# EAGLE library part RELAY:DPDT(OMRON,G6K-2F-Y,SMT) (library QuantumOptics)
Relay, DPDT, OMRON G6K-2F-Y, SMT. . . .http://www.components.omron.com/components/web/pdflib.nsf/0/B9B1B32CFA49FCB185257201007DD585/$file/G6K_0607.pdf
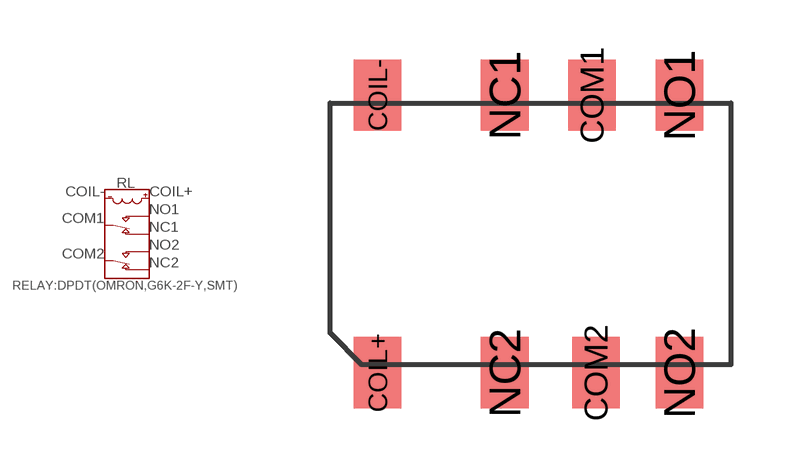
[diagram p113: symbol with the pads of RELAY:DPDT(OMRON,G6K-2F-Y,SMT); footprint RELAY:DPDT(OMRON,G6K-2F-Y,SMT)]

Designator prefix RL

## RELAY:DPDT(OMRON,G6K-2F-Y,SMT)-G6K-2F-Y  [RELAY:DPDT(OMRON,G6K-2F-Y,SMT)]
COIL+  COIL+
COIL-  COIL-
COM1  COM1
COM2  COM2
NC1  NC1
NC2  NC2
NO1  NO1
NO2  NO2

## Footprint RELAY:DPDT(OMRON,G6K-2F-Y,SMT) (pad centres in mm)
Relay, DPDT, OMRON G6K-2F-Y, SMT. . . .http://www.components.omron.com/components/web/pdflib.nsf/0/B9B1B32CFA49FCB185257201007DD585/$file/G6K_0607.pdf
smd 1.2 x 1.8: COIL+ 0,-7; COIL- 0,0; COM1 5.4,0; COM2 5.5,-7; NC1 3.2,0; NC2 3.2,-7; NO1 7.6,0; NO2 7.6,-7